# Altium footprint library RGB.PcbLib: 5 footprints
Each footprint in its own frame and in the unit in brackets; x right, y up, seen from the top. Pads: shape width x height; smd on the part's side, far side on the other; paste and mask are expansions set on the pad; w line width, h text height; cw(c..) or ccw(c..) is an arc to the next point about the centre after c.
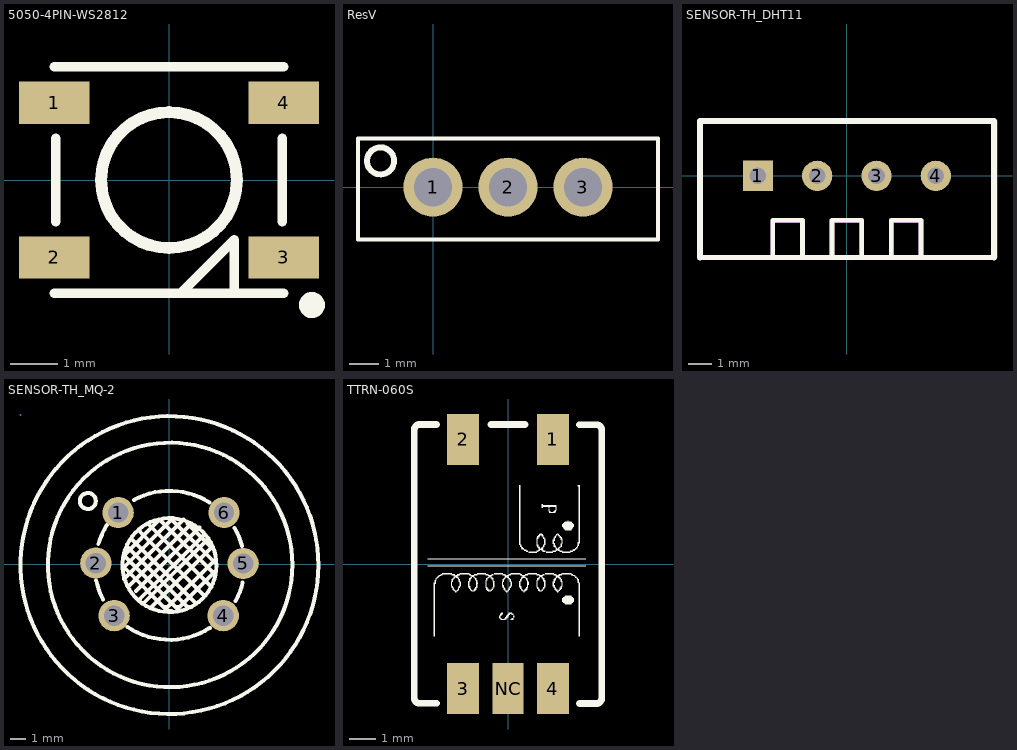
[diagram p0: the footprints below, top view; thin cyan lines are the x and y axes]

## 5050-4PIN-WS2812 [mm]
pads (4):
  rect 1.5x0.9 smd: 1(-2.45,1.65) 2(-2.45,-1.65) 3(2.45,-1.65) 4(2.45,1.65)
Top Overlay:
  circle w0.3: c3.048,-2.667 r0.127
  circle w0.254: c0,0 r1.448
  lines w0.203: -2.45,-2.413 0,-2.413 2.45,-2.413 ; -2.45,2.413 0,2.413 2.45,2.413 ; -2.413,-0.889 -2.413,0 -2.413,0.889 ; 0.254,-2.413 1.397,-1.27 ; 2.413,-0.889 2.413,0 2.413,0.889 ; 1.397,-1.27 1.397,-2.286 1.397,-1.27
3D body "User Library-WS2812B.STEP": height 1.68, standoff -0.02, extent -2.7,-2.5 2.7,2.5

## ResV [mm]
pads (3):
  round 2 hole 1.3 mask+0.051: 1(0,0) 2(2.54,0) 3(5.08,0)
Top Overlay:
  circle w0.2: c-1.778,0.889 r0.458
  lines w0.127: -2.54,-1.778 7.62,-1.778 7.62,1.651 -2.54,1.651 -2.54,-1.778

## SENSOR-TH_DHT11 [mil]
pads (4):
  rect 51x51 hole 28 mask+2: 1(-150,0)
  round 51 hole 28 mask+2: 2(-50,0) 3(50,0) 4(150,0)
Top Overlay:
  lines w8: -248.4,-137.8 150,-137.8 248.4,-137.8 ; -125,-137.8 -125,-75 -75,-75 -75,-137.8 ; -25,-137.8 -25,-75 25,-75 25,-137.8 ; 75,-137.8 75,-75 125,-75 125,-137.8
  lines w10: -248.03,-137.8 -248.03,92.5 248.03,92.5 248.4,92.14 248.4,-137.8
Mechanical 6:
  region: -243.31,-133.87 -243.31,87.78 243.7,87.78 243.7,-133.87 -237.4,-133.87 -237.4,-141.75 249.61,-141.75 253.15,-138.2 253.15,92.9 248.82,97.23 -248.82,97.23 -252.75,93.29 -252.75,-139.38 -250.39,-141.75 -237.79,-141.75 -237.79,-133.87
  region: 78.74,-133.87 71.26,-133.87 71.26,-74.03 74.02,-71.27 125.98,-71.27 128.74,-74.03 128.74,-133.48 121.26,-133.48 121.26,-79.15 120.87,-78.75 79.14,-78.75 78.74,-79.15
  region: -21.25,-133.87 -28.73,-133.87 -28.73,-74.03 -25.98,-71.27 25.99,-71.27 28.75,-74.03 28.75,-133.48 21.27,-133.48 21.27,-79.15 20.87,-78.75 -20.86,-78.75 -21.25,-79.15
  region: -121.26,-133.87 -128.74,-133.87 -128.74,-74.03 -125.98,-71.27 -74.02,-71.27 -71.26,-74.03 -71.26,-133.48 -78.74,-133.48 -78.74,-79.15 -79.13,-78.75 -120.87,-78.75 -121.26,-79.15
Mechanical 15:
  region: -140.16,-5.91 -159.84,-5.91 -159.84,5.91 -140.16,5.91
  region: -40.16,-5.91 -59.84,-5.91 -59.84,5.91 -40.16,5.91
  region: 59.84,-5.91 40.16,-5.91 40.16,5.91 59.84,5.91
  region: 159.84,-5.91 140.16,-5.91 140.16,5.91 159.84,5.91
  region: -245.67,-138.59 -245.67,-137.61 -247.05,-136.23 -249.01,-136.23 -250.39,-137.61 -250.39,-138.59 -250.39,-139.57 -249.01,-140.95 -247.05,-140.95 -245.67,-139.57 -245.67,-138.59
  lines w2: -248.03,-139.77 248.03,-139.77 248.03,92.51 -248.03,92.51 -248.03,-139.77
3D body "User Library-DHT11-3.STEP": height 637.8, standoff -291.34, extent -246.06,-131.1 247.64,94.88

## SENSOR-TH_MQ-2 [mm]
pads (6):
  round 2 hole 1.3 mask+0.051: 1(-3.277,3.289) 2(-4.699,0.064) 3(-3.531,-3.289) 4(3.429,-3.289) 5(4.699,0.038) 6(3.48,3.289)
Top Overlay:
  circle w0.254: c0,-0.064 r9.5
  circle w0.254: c0.041,-0.053 r7.8
  circle w0.254: c-5.207,4.026 r0.508
  circle w0.254: c0,-0.064 r3
  lines w0.254: -4.674,-1.041 ccw(c0,-0.063) -4.235,-2.269 ; -4.544,1.267 cw(c0,-0.064) -3.988,2.489 ; -2.911,-0.963 0.899,2.847 ; -2.667,-4.013 ccw(c0,-0.064) 2.574,-4.074 ; -2.657,-1.471 1.407,2.593 ; -2.657,1.069 1.153,-2.741 1.407,-2.741 ; -2.403,1.577 1.661,-2.487 ; -2.276,4.093 cw(c0,-0.063) 2.54,3.937 ; -2.149,-1.725 1.915,2.339 ; -1.895,-2.233 2.169,1.831 ; -1.895,2.085 2.169,-1.979 ; -1.641,-2.487 2.423,1.577 ; -1.387,2.593 2.677,-1.471 ; -1.133,-2.741 2.677,1.069 1.153,2.593 ; -0.371,-2.741 -0.117,-2.741 2.931,0.307 ; 0.137,-2.995 -0.117,-2.995 -2.911,-0.201 0.137,2.847 2.931,0.053 ; 0.391,-2.741 0.645,-2.741 2.931,-0.455 ; 0.645,-2.995 -2.911,0.561 -0.625,2.847 2.931,-0.709 ; 4.161,2.297 cw(c0,-0.063) 4.623,1.168 ; 4.216,-2.362 ccw(c0,-0.063) 4.673,-1.17
Mechanical 15:
  region: -9.44,9.516 -9.44,9.54 -9.475,9.576 -9.525,9.576 -9.56,9.54 -9.56,9.516 -9.56,9.491 -9.525,9.456 -9.475,9.456 -9.44,9.491
  region: 3.98,3.289 3.98,3.389 3.904,3.572 3.763,3.713 3.579,3.789 3.38,3.789 3.197,3.713 3.056,3.572 2.98,3.389 2.98,3.289 2.98,3.19 3.056,3.006 3.197,2.865 3.38,2.789 3.579,2.789 3.763,2.865 3.904,3.006 3.98,3.19
  region: 5.199,0.038 5.199,0.138 5.123,0.321 4.982,0.462 4.798,0.538 4.6,0.538 4.416,0.462 4.275,0.321 4.199,0.138 4.199,0.038 4.199,-0.061 4.275,-0.245 4.416,-0.386 4.6,-0.462 4.798,-0.462 4.982,-0.386 5.123,-0.245 5.199,-0.061
  region: 3.929,-3.289 3.929,-3.19 3.853,-3.006 3.712,-2.865 3.528,-2.789 3.33,-2.789 3.146,-2.865 3.005,-3.006 2.929,-3.19 2.929,-3.289 2.929,-3.389 3.005,-3.572 3.146,-3.713 3.33,-3.789 3.528,-3.789 3.712,-3.713 3.853,-3.572 3.929,-3.389
  region: -3.031,-3.289 -3.031,-3.19 -3.107,-3.006 -3.247,-2.865 -3.431,-2.789 -3.63,-2.789 -3.814,-2.865 -3.954,-3.006 -4.031,-3.19 -4.031,-3.289 -4.031,-3.389 -3.954,-3.572 -3.814,-3.713 -3.63,-3.789 -3.431,-3.789 -3.247,-3.713 -3.107,-3.572 -3.031,-3.389
  region: -4.199,0.064 -4.199,0.163 -4.275,0.347 -4.416,0.487 -4.6,0.563 -4.798,0.563 -4.982,0.487 -5.123,0.347 -5.199,0.163 -5.199,0.064 -5.199,-0.036 -5.123,-0.22 -4.982,-0.36 -4.798,-0.436 -4.6,-0.436 -4.416,-0.36 -4.275,-0.22 -4.199,-0.036
  region: -2.777,3.289 -2.777,3.389 -2.853,3.572 -2.993,3.713 -3.177,3.789 -3.376,3.789 -3.56,3.713 -3.7,3.572 -3.777,3.389 -3.777,3.289 -3.777,3.19 -3.7,3.006 -3.56,2.865 -3.376,2.789 -3.177,2.789 -2.993,2.865 -2.853,3.006 -2.777,3.19
  lines w0.051: -9.5,0 cw(c0,0.016) 9.5,0 cw(c0,-0.016) -9.5,0

## TTRN-060S [mm]
pads (5):
  rect 1.2x1.9 smd: 1(1.675,4.65) 2(-1.675,4.65) 3(-1.675,-4.65) 4(1.675,-4.65)
  rect 1.15x1.9 smd: NC(0,-4.65)
Top Overlay:
  drawing of 149 lines, arcs and shapes, not listed